# EAGLE library part FXMAR2102 (library thanics_robotics)
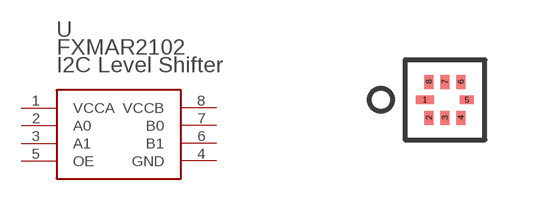
[diagram p19: symbol with the pads of 8-UMLP; footprint 8-UMLP]

Designator prefix -

## FXMAR2102  [8-UMLP]
1  VCCA
2  A0
3  A1
4  GND
5  OE
6  B1
7  B0
8  VCCB

## Footprint 8-UMLP (pad centres in mm)
smd 0.45 x 0.22: 1 -0.5,0
smd 0.22 x 0.35: 2 -0.4,-0.45; 3 0,-0.45; 4 0.4,-0.45; 6 0.4,0.45; 7 0,0.45; 8 -0.4,0.45
smd 0.35 x 0.22: 5 0.55,0